# Altium footprint library ssop_16p635_490x390x175l84x25.PcbLib: 1 footprints
Each footprint in its own frame and in the unit in brackets; x right, y up, seen from the top. Pads: shape width x height; smd on the part's side, far side on the other; paste and mask are expansions set on the pad; w line width, h text height; cw(c..) or ccw(c..) is an arc to the next point about the centre after c.
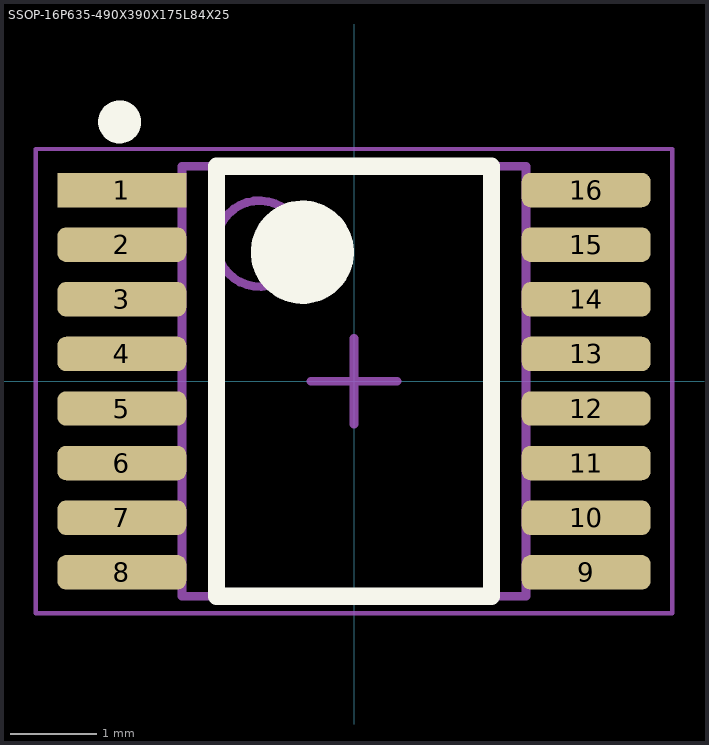
[diagram p0: the footprint, top view; thin cyan lines are the x and y axes]

## SSOP-16P635-490X390X175L84X25 [mm] "SSOP, 16-Leads, Body 4,90x3,90mm, Pitch 0,635mm, IPC Medium Density"
height 1.75
pads (16):
  rect 1.5x0.4 smd: 1(-2.7,2.222)
  rrect50% 1.5x0.4 smd: 2(-2.7,1.587) 3(-2.7,0.953) 4(-2.7,0.318) 5(-2.7,-0.318) 6(-2.7,-0.953) 7(-2.7,-1.587) 8(-2.7,-2.222) 9(2.7,-2.222) 10(2.7,-1.587) 11(2.7,-0.953) 12(2.7,-0.318) 13(2.7,0.318) 14(2.7,0.953) 15(2.7,1.587) 16(2.7,2.222)
Top Overlay:
  circle w0.25: c-2.725,3.015 r0.125
  circle w0.6: c-0.6,1.5 r0.3
  lines w0.2: -1.6,-2.5 -1.6,2.5 1.6,2.5 1.6,-2.5 -1.6,-2.5
Top Comment:
  text ".Comment" at 1,2.9 h1.2
Top Designator:
  text ".Designator" at -0.4,2.9 h1.2
Top Component Outline:
  circle w0.1: c-1.1,1.6 r0.5
  lines w0.1: -2,-2.5 -2,2.5 2,2.5 2,-2.5 -2,-2.5
Top Courtyard (Mech15):
  lines w0.05: -3.7,-2.7 -3.7,2.7 3.7,2.7 3.7,-2.7 -3.7,-2.7
  lines w0.1: -0.5,0 0.5,0 ; 0,-0.5 0,0.5
3D body "SSOP-16.STEP": height 1.75, standoff 0.01, extent -3.127,-2.5 3.127,2.5